# Altium footprint library SO-16.PcbLib: 1 footprints
Each footprint in its own frame and in the unit in brackets; x right, y up, seen from the top. Pads: shape width x height; smd on the part's side, far side on the other; paste and mask are expansions set on the pad; w line width, h text height; cw(c..) or ccw(c..) is an arc to the next point about the centre after c.
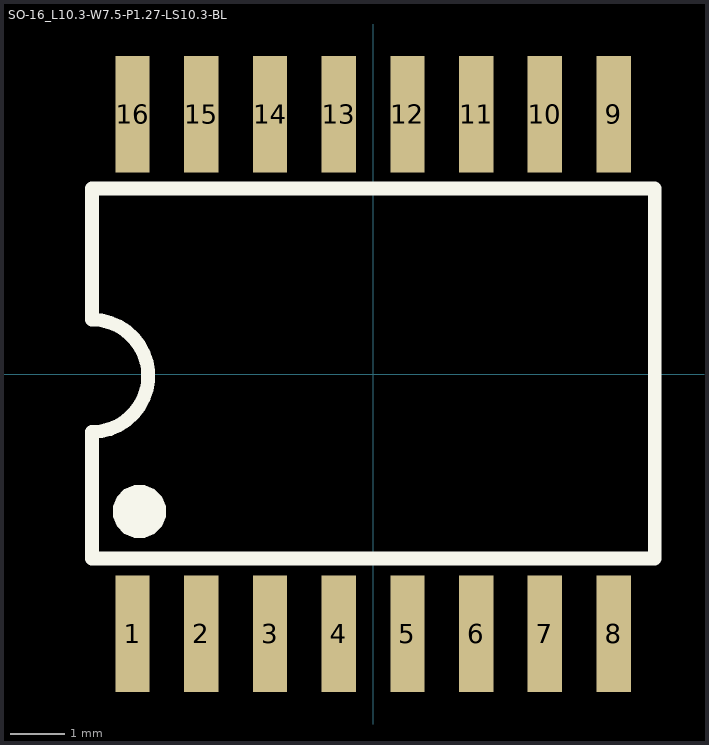
[diagram p0: the footprint, top view; thin cyan lines are the x and y axes]

## SO-16_L10.3-W7.5-P1.27-LS10.3-BL [mm]
pads (16):
  rect 0.635x2.16 smd paste+0 mask+0.051: 1(-4.445,-4.8) 2(-3.175,-4.8) 3(-1.905,-4.8) 4(-0.635,-4.8) 5(0.635,-4.8) 6(1.905,-4.8) 7(3.175,-4.8) 8(4.445,-4.8) 9(4.445,4.8) 10(3.175,4.8) 11(1.905,4.8) 12(0.635,4.8) 13(-0.635,4.8) 14(-1.905,4.8) 15(-3.175,4.8) 16(-4.445,4.8)
Top Overlay:
  region: -4.805,-2.54 -4.805,-2.443 -4.731,-2.264 -4.594,-2.127 -4.415,-2.053 -4.221,-2.053 -4.042,-2.127 -3.905,-2.264 -3.831,-2.443 -3.831,-2.54 -3.831,-2.637 -3.905,-2.816 -4.042,-2.953 -4.221,-3.027 -4.415,-3.027 -4.594,-2.953 -4.731,-2.816 -4.805,-2.637
  lines w0.254: -5.193,-3.411 5.207,-3.411 5.207,3.429 -5.193,3.429 -5.193,1.005 ; -5.193,1.005 cw(c-5.193,-0.033) -5.192,-1.071 -5.192,-3.411